# EAGLE library part 61729 (library con-usb)
TYPE-B Receptacle, FCI
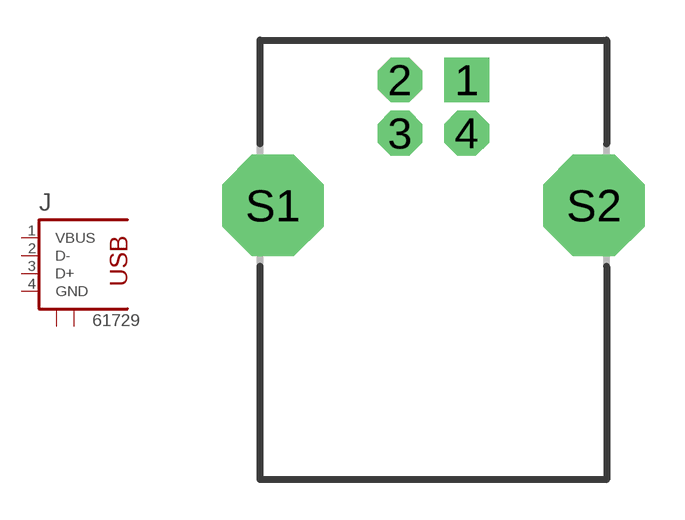
[diagram p1: symbol with the pads of 61729; footprint 61729]

Designator prefix J

## 61729  [61729]
1  VBUS  pas
2  D-  pas
3  D+  pas
4  GND  pas
S1  S1  pas
S2  S2  pas

## Footprint 61729 (pad centres in mm)
FCI - 61729 Series
drill 1.016 pad 1.676 square: 1 1.25,1
drill 1.016 pad 1.676 octagon: 2 -1.25,1; 3 -1.25,-1; 4 1.25,-1
drill 2.54 pad 3.81 octagon: S1 -6.02,-3.71; S2 6.02,-3.71